# EAGLE library part EC1110120201 (library EC1110120201)
11mm Metal Shaft Type Encoder 5-Pin Tray - Trays Source: Datasheet <https://tech.alpsalpine.com/e/products/detail/EC1110120201/>
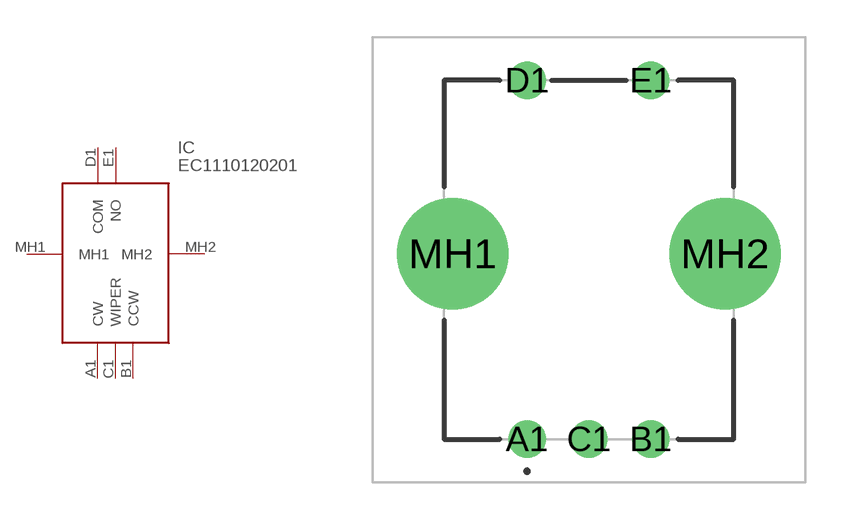
[diagram p0: symbol with the pads of EC1110120201; footprint EC1110120201]

Designator prefix IC

## EC1110120201 (Description: 11mm Metal Shaft Type Encoder 5-Pin Tray - Trays; Height: 25mm; Manufacturer_Name: ALPS Electric; Manufacturer_Part_Number: EC1110120201; Mouser_Part_Number: 688-EC1110120201; Mouser_Price-Stock: https://www.mouser.co.uk/ProductDetail/Alps-Alpine/EC1110120201?qs=6EGMNY9ZYDQZuRRlni99ZQ%3D%3D)  [EC1110120201]
A1  CW
B1  CCW
C1  WIPER
D1  COM
E1  NO
MH1  MH1
MH2  MH2

## Footprint EC1110120201 (pad centres in mm)
EC1110120201
drill 1 pad 1.5: A1 0,0; B1 5,0; C1 2.5,0; D1 0,14.5; E1 5,14.5
drill 3 pad 4.5: MH1 -3,7.5; MH2 8,7.5